# EAGLE library part REF5040D (library SquantorIC)
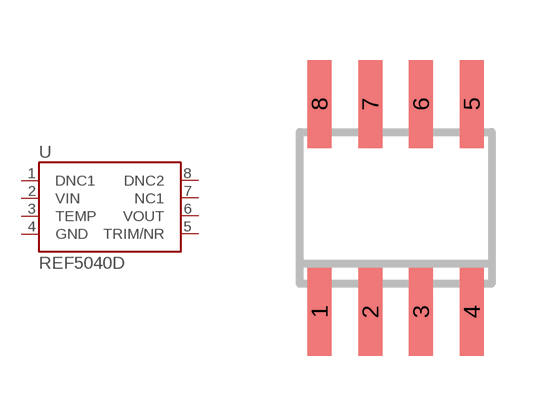
[diagram p3: symbol with the pads of SO-08; footprint SO-08]

Designator prefix -

## REF5040D  [SO-08]
1  DNC1  nc
2  VIN  pwr
3  TEMP
4  GND  pwr
5  TRIM/NR
6  VOUT  out
7  NC1  nc
8  DNC2  nc

## Footprint SO-08 (pad centres in mm)
D (R-PDSO-G8) Plastic Small Outline Package Source: http://focus.ti.com/lit/ds/symlink/sn65als176.pdf
smd 0.6 x 2.2: 1 -1.905,-2.6; 2 -0.635,-2.6; 3 0.635,-2.6; 4 1.905,-2.6; 5 1.905,2.6; 6 0.635,2.6; 7 -0.635,2.6; 8 -1.905,2.6